# Altium schematic symbol library ExternalLib.SchLib: 9 symbols
Pins are listed as number, name and electrical type; pins without a type are passive.

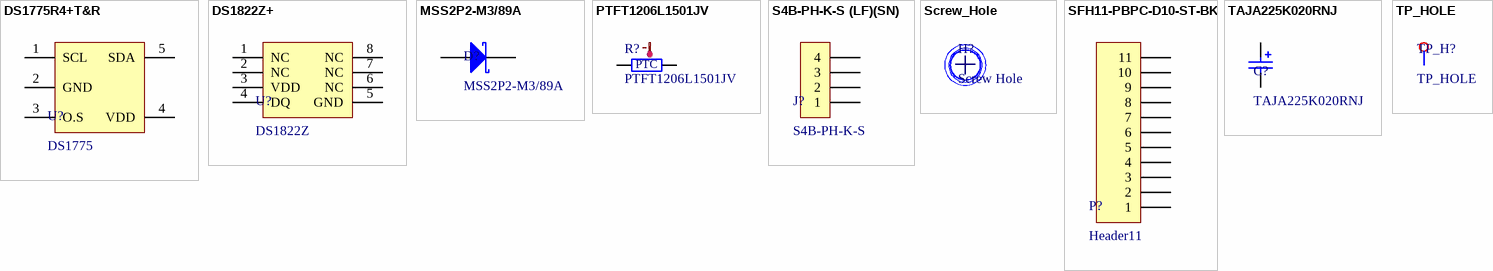
[diagram p0: symbols DS1775R4+T&R to TP_HOLE]

## DS1775R4+T&R
designator U?, comment DS1775
SENSOR TEMPERATURE I2C SOT23-5; Manufacturer: Maxim Integrated; Manufacturer Part Number: DS1775R4+T&R; Sensor Type: Digital, Local; Sensing Temperature - Local: -55°C ~ 125°C; Output Type: I²C; Voltage - Supply: 2.7 V ~ 5.5 V; Resolution: 11 b; Accuracy - Highest (Lowest): ±2°C (±3°C); Test Condition: 10°C ~ 85°C (-55°C ~ 125°C); Supplier 1: Digi-Key; RoHS: RoHS Compliant; Category: Sensors, Transducers; Stock 1: 5995; Pricing 1: 1=2.14, 10=2.015, 25=1.6116, 50=1.531, 100=1.4102, 250=1.33764, 500=1.28928 (USD); Packaging: Cut Tape (CT); Sensing Temperature - Remote: -; Features: Output Switch, Programmable Limit, Programmable Resolution, Shutdown Mode; Operating Temperature: -55°C ~ 125°C; Package / Case: SC-74A, SOT-753; Supplier Device Package: SOT-23-5; ComponentLink1URL: http://datasheets.maximintegrated.com/en/ds/DS1775-DS1775R.pdf; ComponentLink1Description: http://datasheets.maximintegrated.com/en/ds/DS1775-DS1775R.pdf
footprint DS1775 (SENSOR TEMPERATURE I2C SOT23-5)
pins: 1 SCL, 2 GND, 3 O.S, 4 VDD, 5 SDA

## DS1822Z+
designator U?, comment DS1822Z
SENSOR TEMPERATURE 1-WIRE 8SOIC; Manufacturer: Maxim Integrated; Manufacturer Part Number: DS1822Z+; Sensor Type: Digital, Local; Sensing Temperature - Local: -55°C ~ 125°C; Output Type: 1-Wire®; Voltage - Supply: 3 V ~ 5.5 V; Resolution: 11 b; Accuracy - Highest (Lowest): ±2°C (±3°C); Test Condition: -10°C ~ 85°C (-55°C ~ 125°C); Supplier 1: Digi-Key; RoHS: RoHS Compliant; Category: Sensors, Transducers; Stock 1: 1532; Pricing 1: 1=2.4, 10=2.321 (USD); Packaging: Tube; Sensing Temperature - Remote: -; Features: Output Switch, Programmable Limit, Standby Mode; Operating Temperature: -55°C ~ 125°C; Package / Case: 8-SOIC (0.154", 3.90mm Width); Supplier Device Package: 8-SOIC; ComponentLink1URL: http://datasheets.maximintegrated.com/en/ds/DS1822.pdf; ComponentLink1Description: http://datasheets.maximintegrated.com/en/ds/DS1822.pdf; Supplier 2: Digi-Key; Stock 2: 5995; Pricing 2: 1=2.14, 10=2.015, 25=1.6116, 50=1.531, 100=1.4102, 250=1.33764, 500=1.28928 (USD); ComponentLink2URL: http://datasheets.maximintegrated.com/en/ds/DS1775-DS1775R.pdf; ComponentLink2Description: http://datasheets.maximintegrated.com/en/ds/DS1775-DS1775R.pdf
footprint DS1822 (SENSOR TEMPERATURE 1-WIRE 8SOIC)
pins: 1 NC, 2 NC, 3 VDD, 4 DQ, 5 GND, 6 NC, 7 NC, 8 NC

## MSS2P2-M3/89A
designator D?
DIODE SCHOTTKY 20V 2A MICROSMP; Manufacturer: Vishay Semiconductor Diodes Division; Voltage - Forward (Vf) (Max) @ If: 600mV @ 2A; Speed: Fast Recovery =< 500ns, > 200mA (Io); Current - Reverse Leakage @ Vr: 250µA @ 20V; Capacitance @ Vr, F: 65pF @ 4V, 1MHz; Supplier 1: Digi-Key; Manufacturer Part Number: MSS2P2-M3/89A; RoHS: RoHS Compliant; Category: Discrete Semiconductor Products; Stock 1: 16161; Pricing 1: 1=0.37, 10=0.274, 100=0.1552, 500=0.1029, 1000=0.07892 (USD); Packaging: Cut Tape (CT); Diode Type: Schottky; Voltage - DC Reverse (Vr) (Max): 20V; Current - Average Rectified (Io): 2A; Reverse Recovery Time (trr): -; Mounting Type: Surface Mount; Package / Case: MicroSMP; Supplier Device Package: MicroSMP; Operating Temperature - Junction: -55°C ~ 150°C; ComponentLink1URL: http://www.vishay.com/docs/89054/mss2p3.pdf; ComponentLink1Description: http://www.vishay.com/docs/89054/mss2p3.pdf
footprint MSS2P2-M3 (DIODE SCHOTTKY 20V 2A MICROSMP)
pins: 1 A, 2 K

## PTFT1206L1501JV
designator R?
THERMISTOR PTC 1.5K OHM 5% 1206; Manufacturer: Vishay Dale; Power - Max: 125mW; Supplier 1: Digi-Key; Manufacturer Part Number: PTFT1206L1501JV; RoHS: RoHS Compliant; Category: Sensors, Transducers; Stock 1: 0; Pricing 1: 1000=0 (USD); Packaging: Tape & Reel (TR); Resistance in Ohms @ 25°C: 1.5k; Resistance Tolerance: ±5%; Operating Temperature: -55°C ~ 125°C; Mounting Type: Surface Mount; Package / Case: 1206 (3216 Metric); Supplier Device Package: 1206; ComponentLink1URL: http://media.digikey.com/pdf/Data%20Sheets/Vishay%20Dale%20PDFs/PTFT.pdf; ComponentLink1Description: http://media.digikey.com/pdf/Data%20Sheets/Vishay%20Dale%20PDFs/PTFT.pdf
footprint PTFT1206L1501JV (THERMISTOR PTC 1.5K OHM 5% 1206)
pins: 1, 2
text: PTC

## S4B-PH-K-S (LF)(SN)
designator J?, comment S4B-PH-K-S
JST (JAPAN SOLDERLESS TERMINALS) - S4B-PH-K-S (LF)(SN) - CONNECTOR, HEADER, 2MM, 4 POSITION, 1ROW; Supplier 1: Newark; Manufacturer: JST (JAPAN SOLDERLESS TERMINALS); Manufacturer Part Number: S4B-PH-K-S (LF)(SN); RoHS: YES; Stock 1: 908; Pricing 1: 1=0.14, 250=0.126, 500=0.112, 1000=0.101, 5000=0.069 (USD); ComponentLink1URL: http://www.farnell.com/datasheets/80564.pdf; ComponentLink1Description: http://www.farnell.com/datasheets/80564.pdf
footprint CON4 (CONN HEADER PH SIDE 4POS 2MM)
pins: 1, 2, 3, 4

## Screw_Hole
designator H?, comment Screw Hole
Screw Hole inner hole 3.3mm, solder 6mm
footprint Screw Hole (Screw Hole inner hole 3.3mm, solder 6mm)

## SFH11-PBPC-D10-ST-BK
designator P?, comment Header11
CONN HEADR FMALE 20POS .1" DL AU; Manufacturer: Sullins Connector Solutions; Manufacturer Part Number: SFH11-PBPC-D10-ST-BK; Connector Type: Header; Number of Positions: 20; Number of Positions Loaded: All; Pitch: 0.100" (2.54mm); Supplier 1: Digi-Key; RoHS: RoHS Compliant; Category: Connectors, Interconnects; Stock 1: 14457; Pricing 1: 1=1.43, 10=1.185, 25=1.0976, 50=0.9878, 100=0.878, 250=0.76824, 500=0.7024, 1000=0.63655, 2500=0.5707 (USD); Packaging: Tray; Contact Type: Female Socket; Number of Rows: 2; Row Spacing: 0.100" (2.54mm); Mounting Type: Through Hole; Termination: Solder; Fastening Type: -; Features: Polarizing Key; Contact Finish: Gold; Contact Finish Thickness: Flash; Color: Black; ComponentLink1URL: http://sullinscorp.com/catalogs/146_PAGE119_.100_SFH11_SERIES_FEMALE_HDR_ST_RA.pdf; ComponentLink1Description: http://sullinscorp.com/catalogs/146_PAGE119_.100_SFH11_SERIES_FEMALE_HDR_ST_RA.pdf
footprint CON11 (CONN HEADR FMALE 11POS .1" DL AU)
pins: 1, 2, 3, 4, 5, 6, 7, 8, 9, 10, 11

## TAJA225K020RNJ
designator C?
CAP TANT 2.2UF 20V 10% 1206; Manufacturer: AVX Corporation; Manufacturer Size Code: A; Capacitance: 2.2µF; ESR (Equivalent Series Resistance): 5.3 Ohm; Type: Molded; Supplier 1: Digi-Key; Manufacturer Part Number: TAJA225K020RNJ; RoHS: RoHS Compliant; Category: Capacitors; Stock 1: 864; Pricing 1: 1=0.35, 10=0.295, 100=0.1476, 250=0.11072, 500=0.09778, 1000=0.08672 (USD); Packaging: Digi-Reel®; Tolerance: ±10%; Voltage - Rated: 20V; Operating Temperature: -55°C ~ 125°C; Mounting Type: Surface Mount; Package / Case: 1206 (3216 Metric); Size / Dimension: 0.126" L x 0.063" W (3.20mm x 1.60mm); Height - Seated (Max): 0.071" (1.80mm); Lead Spacing: -; Features: General Purpose; Lifetime @ Temp.: -; ComponentLink1URL: http://datasheets.avx.com/TAJ.pdf; ComponentLink1Description: http://datasheets.avx.com/TAJ.pdf
footprint C1206 (CAP TANT 2.2UF 20V 10% 1206)
pins: 1, 2

## TP_HOLE
designator TP_H?
TEST POINT HOLE
footprint TestHole (pad of test through hole)
pins: 1 TP